# EAGLE library part IN-P55QSTGRGBW (library P-LED-0004-V1A EAGLE Library)
The IN-P55QSTGRGBW is PLCC8 Slug 0.5w RGBW LED. It is a SMD type LED which can be used in various applications.
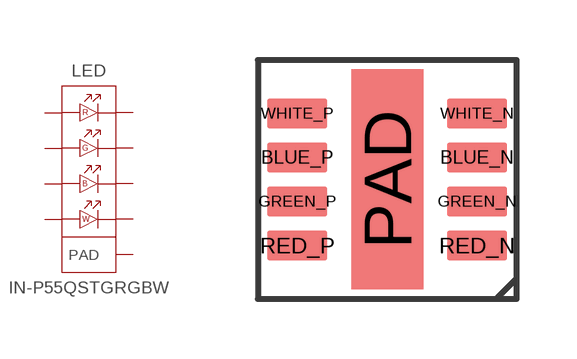
[diagram p0: symbol with the pads of IN-P55QSTGRGBW_AIS; footprint IN-P55QSTGRGBW_AIS]

Designator prefix LED

## IN-P55QSTGRGBWAIS  [IN-P55QSTGRGBW_AIS]
BLUE_N  BLUE_N  out
BLUE_P  BLUE_P  in
GREEN_N  GREEN_N  out
GREEN_P  GREEN_P  in
PAD  PAD  pas
RED_N  RED_N  out
RED_P  RED_P  in
WHITE_N  WHITE_N  out
WHITE_P  WHITE_P  in

## Footprint IN-P55QSTGRGBW_AIS (pad centres in mm)
5.4mm x 5.0mm PLCC8 Slug RGBW LED with thermal pad. NOTE: Footprint assumes use of a one-layer aluminum insulated substrate PCB.
smd 1.5 x 0.75: BLUE_N 2.25,0.55; BLUE_P -2.25,0.55; GREEN_N 2.25,-0.55; GREEN_P -2.25,-0.55; RED_N 2.25,-1.65; RED_P -2.25,-1.65; WHITE_N 2.25,1.65; WHITE_P -2.25,1.65
smd 1.8 x 5.5: PAD 0,0